# EAGLE library part BOURNS_RAR (library seniorDesign)
Parameters: CAT25 [Test Method] Number of Resistors: 8 Resistance Range E24: 10 ohms to 1 megohm Resistance Tolerance: 5 % [JIS-C-5202.5.1] Power Rating/Resistor: 62.5 mW Rating Temperature: +70 °C T.C.R. ±200 ppm/°C [JIS-C-5202.5.2] Maximum Operating Voltage: 25 V Operating Temperature -55 °C to +125 °C
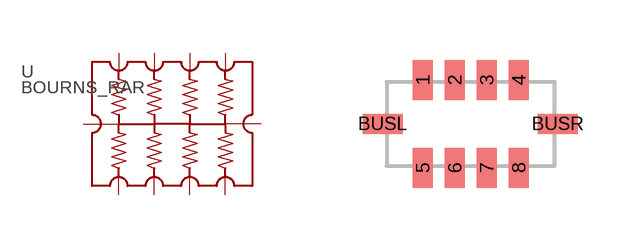
[diagram p0: symbol with the pads of CAT25; footprint CAT25]

Designator prefix -

## BOURNS_RAR  [CAT25]
1  1  pas
2  2  pas
3  3  pas
4  4  pas
5  5  pas
6  6  pas
7  7  pas
8  8  pas
BUSL  BUSL  pas
BUSR  BUSR  pas

## Footprint CAT25 (pad centres in mm)
smd 0.5 x 1: 1 -1.2,1.1; 2 -0.4,1.1; 3 0.4,1.1; 4 1.2,1.1; 5 -1.2,-1.1; 6 -0.4,-1.1; 7 0.4,-1.1; 8 1.2,-1.1
smd 1 x 0.5: BUSL -2.2,0; BUSR 2.18,0